# EAGLE library part 692121130100 (library Eagle_WR-USB (rev22b))
WR-COM USB 3.0 Type A Reverse Horizontal w. Offset 0.14 mm Kind Properties Durability:5 000 Mating cycles Quality Class:5 000 Mating cycles Connector Type:USB Gender:Receptacle Type:Reverse Horizontal General Information Operating Temperature:-20up to +85 °C Electrical Properties IR 1:1.8A Working Voltage:30V (AC) Withstanding Voltage:100V (AC) Contact Resistance:50 mΩ Material Properties Insulator Material:LCP Insulator Flammability Rating:UL94 V-0 Color:Blue Contact Material:Phosphor Bronze Contact Plating:Matte Tin Contact Type:Stamped Shielding Material:Brass Shielding Plating:Matte Tin <https://www.we-online.com/catalog/media/o33021v209%20Family_WR-COM_692121130100.jpg> Details see: https://www.we-online.com/catalog/en/COM_3_0_TYPE_A_REVERSE_HORIZONTAL_W_OFFSET_0_14MM/ Updated by Ella Wu 2021-09-28 2021 (C) Würth Elektronik
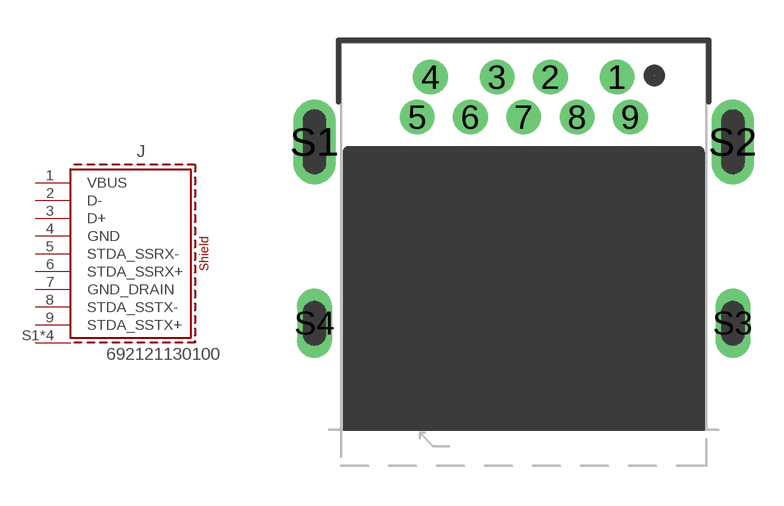
[diagram p22: symbol with the pads of 692121130100; footprint 692121130100]

Designator prefix J

## 692121130100 (APPLICATION: USB 3.0; DATASHEET-URL: https://www.we-online.com/redexpert/spec/692121130100?ae; GERDER: Receptacle; INTERFACE-TYPE: Type A; IR: 1.8A; MOUNT: THR; PACKAGING: Tape and Reel; PART-NUMBER: 692121130100; PINS: 9; TYPE: Reverse Horizontal; VALUE: 692121130100; WORKING-VOLTAGE: 30V(AC))  [692121130100]
1  VBUS  pas
2  D-  pas
3  D+  pas
4  GND  pas
5  STDA_SSRX-  pas
6  STDA_SSRX+  pas
7  GND_DRAIN  pas
8  STDA_SSTX-  pas
9  STDA_SSTX+  pas
S1  SHIELD  pas
S2  SHIELD  pas
S3  SHIELD  pas
S4  SHIELD  pas

## Footprint 692121130100 (pad centres in mm)
WR-COM USB 3.0 Type A Reverse Horizontal w. Offset 0.14 mm
drill 0.7 pad 1.3: 1 3.5,6.645; 2 1,6.645; 3 -1,6.645; 4 -3.5,6.645; 5 -4,5.145; 6 -2,5.145; 7 0,5.145; 8 2,5.145; 9 4,5.145
drill 0.8 pad 1.6 long: S1 -7.85,4.215; S2 7.85,4.215
drill 0.8 long: S3 7.85,-2.585; S4 -7.85,-2.585